# Altium footprint library CON 90814-0810.PcbLib: 1 footprints
Each footprint in its own frame and in the unit in brackets; x right, y up, seen from the top. Pads: shape width x height; smd on the part's side, far side on the other; paste and mask are expansions set on the pad; w line width, h text height; cw(c..) or ccw(c..) is an arc to the next point about the centre after c.
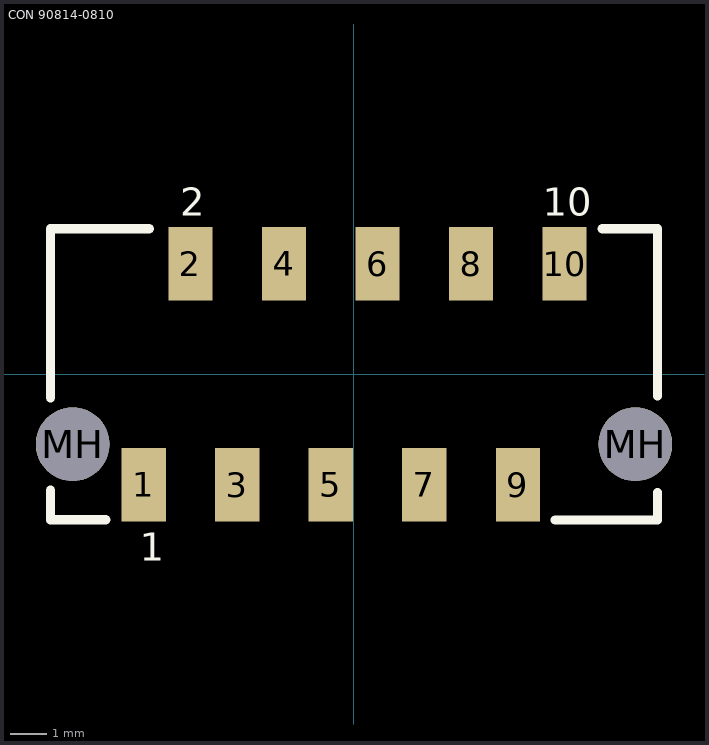
[diagram p0: the footprint, top view; thin cyan lines are the x and y axes]

## CON 90814-0810 [mm]
pads (12):
  rect 1.2x2 smd: 1(-5.71,-3) 2(-4.44,3) 3(-3.17,-3) 4(-1.9,3) 5(-0.63,-3) 6(0.64,3) 7(1.91,-3) 8(3.18,3) 9(4.45,-3) 10(5.72,3)
  round 2 hole 2 unplated: MH(-7.64,-1.9) MH(7.64,-1.9)
Top Overlay:
  lines w0.254: -8.24,-3.958 -8.24,-3.146 ; -8.24,-3.95 -6.74,-3.95 ; -8.24,-0.643 -8.24,3.95 -5.557,3.95 ; 5.464,-3.958 8.24,-3.958 8.24,-3.211 ; 6.74,3.95 8.24,3.95 8.24,-0.59
  text "1" at -5.819,-5.059 h0.76
  text "2" at -4.718,4.311 h0.76
  text "10" at 5.123,4.298 h0.76
3D body: height 4.97, standoff -1.43, extent -8.24,-3.45 8.24,3.45